# Altium schematic symbol library Battery Block.SchLib: 2 symbols
Pins are listed as number, name and electrical type; pins without a type are passive.

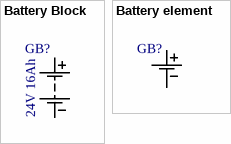
[diagram p0: symbols Battery Block to Battery element]

## Battery Block
designator GB?, comment 24V 16Ah
Value: *; Catalog: *; Catalog number: *
pins: 1, 2

## Battery element
designator GB?  (value not drawn)
3.7V; Value: *; Catalog: *; Catalog number: *
pins: 1, 2